# Altium footprint library Tool.PcbLib: 86 footprints (part 5 of 6)
Each footprint in its own frame and in the unit in brackets; x right, y up, seen from the top. Pads: shape width x height; smd on the part's side, far side on the other; paste and mask are expansions set on the pad; w line width, h text height; cw(c..) or ccw(c..) is an arc to the next point about the centre after c.
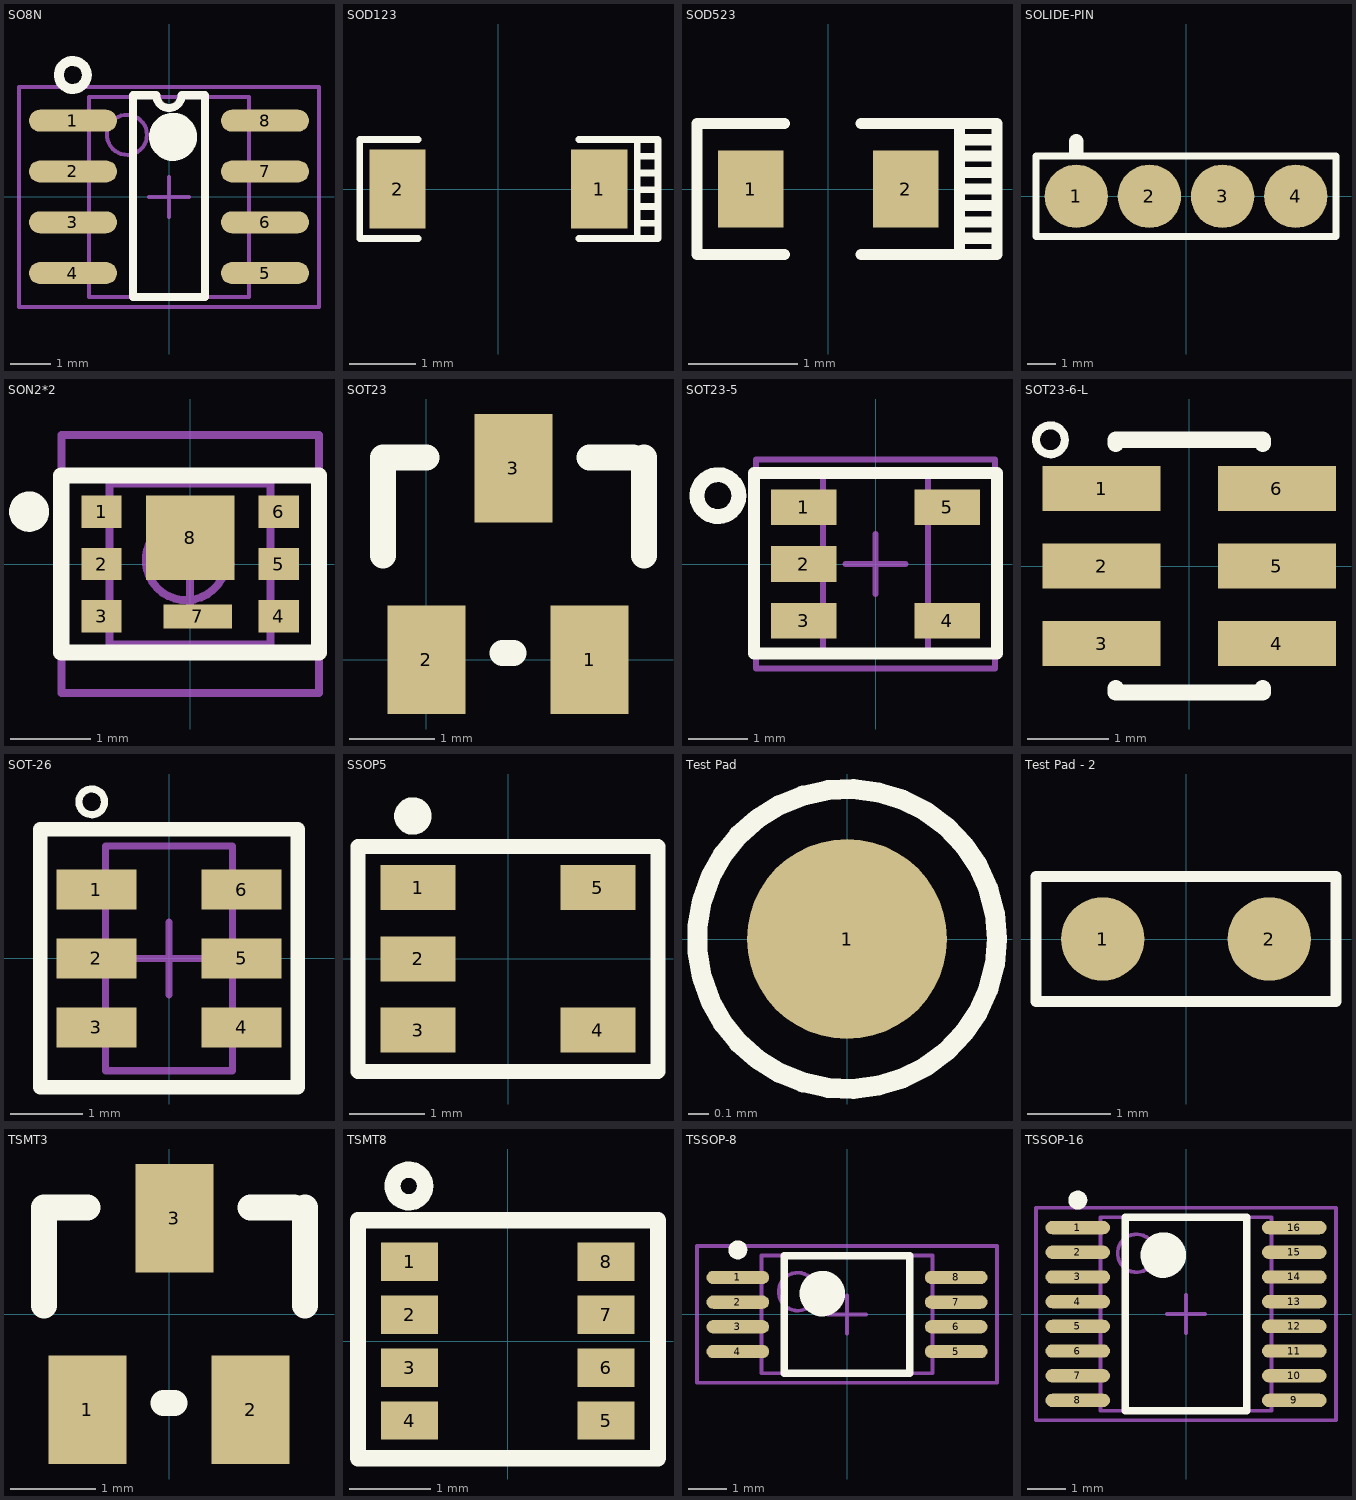
[diagram p4: the footprints below, top view; thin cyan lines are the x and y axes]

## SO8N [mm]
height 1.75
pads (8):
  oval 2.2x0.55 smd: 1(-2.4,1.905) 2(-2.4,0.635) 3(-2.4,-0.635) 4(-2.4,-1.905) 5(2.4,-1.905) 6(2.4,-0.635) 7(2.4,0.635) 8(2.4,1.905)
Top Overlay:
  circle w0.6: c0.1,1.5 r0.3
  circle w0.25: c-2.405,3.048 r0.35
  lines w0.2: -0.9,2.5 -0.9,-2.5 0.9,-2.5 0.9,2.5
  lines w0.203: -0.9,2.54 -0.317,2.54 ccw(c0,2.54) 0.318,2.54 0.9,2.54
Mechanical 13:
  circle w0.1: c-1.05,1.55 r0.5
  lines w0.1: -2,-2.5 2,-2.5 2,2.5 -2,2.5 -2,-2.5
Mechanical 15:
  lines w0.1: -0.5,0 0.5,0 ; 0,-0.5 0,0.5 ; -3.75,-2.75 3.75,-2.75 3.75,2.75 -3.75,2.75 -3.75,-2.75
3D body: height 1.75, standoff 0.17, extent -2,-2.5 2,2.5

## SOD123 [mm] "厂家：ROHM，型号：RB161M-20"
pads (2):
  rect 0.85x1.2 smd: 1(1.525,0) 2(-1.525,0)
Top Overlay:
  lines w0.102: -1.215,-0.75 -2.1,-0.75 -2.1,0.75 -1.215,0.75 ; 1.215,-0.75 2.1,-0.75 ; 1.215,0.75 2.1,0.75 ; 2.1,-0.52 2.414,-0.52 ; 2.1,-0.266 2.414,-0.266 ; 2.1,-0.012 2.414,-0.012 ; 2.1,0.242 2.414,0.242 ; 2.1,0.496 2.414,0.496 ; 2.1,-0.75 2.1,0.75 ; 2.1,-0.75 2.414,-0.75 2.414,0.75 2.1,0.75

## SOD523 [mm]
pads (2):
  rect 0.6x0.7 smd: 1(-0.71,0) 2(0.71,0)
Top Overlay:
  lines w0.102: -0.4,-0.6 -1.2,-0.6 -1.2,0.6 -0.4,0.6 ; 0.3,-0.6 1.543,-0.6 1.543,0.6 0.3,0.6 ; 1.2,-0.6 1.2,0.6 ; 1.2,-0.45 1.514,-0.45 ; 1.21,-0.3 1.524,-0.3 ; 1.21,-0.15 1.524,-0.15 ; 1.21,0 1.524,0 ; 1.21,0.3 1.524,0.3 ; 1.229,0.15 1.543,0.15 ; 1.229,0.45 1.543,0.45
3D body: height 0.7, standoff 0, extent -1.377,-0.552 1.377,0.552

## SOLIDE-PIN [mm] "厂家：联立通，型号：LLT-144006"
pads (4):
  round 2.2 smd: 1(-3.81,0) 2(-1.27,0) 3(1.27,0) 4(3.81,0)
Top Overlay:
  lines w0.254: -5.207,-1.397 5.207,-1.397 5.207,1.397 -5.207,1.397 -5.207,-1.397
  lines w0.5: -3.81,1.524 -3.81,1.905

## SON2*2 [mm]
height 0.8
pads (8):
  rect 0.5x0.4 smd: 1(-1.1,0.65) 2(-1.1,0) 3(-1.1,-0.65) 4(1.1,-0.65) 5(1.1,0) 6(1.1,0.65)
  rect 0.85x0.3 smd: 7(0.095,-0.65)
  rect 1.1x1.05 smd: 8(0,0.325)
Top Overlay:
  circle w0.25: c-2,0.65 r0.125
  lines w0.2: -1.6,-1.1 1.6,-1.1 1.6,1.1 -1.6,1.1 -1.6,-1.1
Mechanical 13:
  circle w0.1: c-0.05,0.05 r0.5
  lines w0.1: -1,-1 -1,1 1,1 1,-1 -1,-1
Mechanical 15:
  lines w0.1: -0.5,0 0.5,0 ; 0,-0.5 0,0.5 ; -1.6,-1.6 -1.6,1.6 1.6,1.6 1.6,-1.6 -1.6,-1.6
3D body: height 0.8, standoff 0.05, extent -1,-1 1,1

## SOT23 [mil]
pads (3):
  rect 36x50 smd: 1(75,0) 2(0,0) 3(40,88)
Top Overlay:
  lines w12: -20,48 -20,93 0,93 ; 35,3 40,3 ; 75,93 95,93 ; 100,48 100,93
3D body: height 37.4, standoff 0, extent -22,-29.01 97,116.99

## SOT23-5 [mm] "厂家：ST，型号：STM6321硬件复位看门狗芯片"
pads (5):
  rect 1.1x0.6 smd: 1(-1.2,0.95) 2(-1.2,0) 3(-1.2,-0.95) 4(1.2,-0.95) 5(1.2,0.95)
Top Overlay:
  circle w0.25: c-2.636,1.143 r0.35
  lines w0.2: -2.032,-1.5 -2.032,1.524 2.032,1.524 2.032,-1.5 -2.032,-1.5
Mechanical 13:
  lines w0.1: -0.875,-1.5 0.875,-1.5 0.875,1.5 -0.875,1.5 -0.875,-1.5
Mechanical 15:
  lines w0.1: -0.5,0 0.5,0 ; 0,-0.5 0,0.5 ; -2,-1.75 2,-1.75 2,1.75 -2,1.75 -2,-1.75
3D body: height 1.45, standoff 0.15, extent -0.875,-1.5 0.875,1.5

## SOT23-6-L [mm]
pads (6):
  rect 1.45x0.55 smd: 1(-1.075,0.95) 2(-1.075,0) 3(-1.075,-0.95) 4(1.075,-0.95) 5(1.075,0) 6(1.075,0.95)
Top Overlay:
  circle w0.1: c-1.702,1.549 r0.177
  lines w0.2: -0.9,-1.5 -0.9,-1.55 0.9,-1.55 0.9,-1.5 ; -0.9,1.5 -0.9,1.55 0.9,1.55 0.9,1.5
3D body "User Library-SOT-23-6.STEP": height 1.08, standoff -0.01, extent -1.232,-1.397 1.194,1.397

## SOT-26 [mm] "SOT23, 6-Leads, Body 3.1x2.6mm (max), Pitch 0.95mm, IPC Medium Density"
height 1.3
pads (6):
  rect 1.1x0.55 smd: 1(-1,0.95) 2(-1,0) 3(-1,-0.95) 4(1,-0.95) 5(1,0) 6(1,0.95)
Top Overlay:
  circle w0.1: c-1.066,2.159 r0.177
  lines w0.2: -1.778,-1.778 -1.778,1.778 1.778,1.778 1.778,-1.778 -1.778,-1.778
Mechanical 13:
  lines w0.1: -0.875,-1.55 -0.875,1.55 0.875,1.55 0.875,-1.55 -0.875,-1.55
Mechanical 15:
  lines w0.1: -0.5,0 0.5,0 ; 0,-0.5 0,0.5 ; -1.8,-1.8 -1.8,1.8 1.8,1.8 1.8,-1.8 -1.8,-1.8
3D body: height 1.3, standoff 0.1, extent -0.875,-1.55 0.875,1.55

## SSOP5 [mm]
pads (5):
  rect 1x0.6 smd: 1(-1.2,0.95) 2(-1.2,0) 3(-1.2,-0.95) 4(1.2,-0.95) 5(1.2,0.95)
Top Overlay:
  circle w0.25: c-1.268,1.905 r0.125
  lines w0.2: -2,-1.5 -2,1.5 2,1.5 2,-1.5 -2,-1.5

## Test Pad [mm]
pads (1):
  round 1 smd: 1(0,0)
Top Overlay:
  circle w0.1: c0,0 r0.75
3D body: height 0.1, standoff 0, extent -0.602,-0.602 0.602,0.602

## Test Pad - 2 [mm]
pads (2):
  round 1 smd: 1(-1,0) 2(1,0)
Top Overlay:
  lines w0.127: -1.8,-0.75 -1.8,0.75 1.8,0.75 1.8,-0.75 -1.8,-0.75

## TSMT3 [mil]
pads (3):
  rect 36x50 smd: 1(-37.5,-44) 2(37.5,-44) 3(2.5,44)
Top Overlay:
  lines w12: -57.5,4 -57.5,49 -37.5,49 ; -2.5,-41 2.5,-41 ; 37.5,49 57.5,49 ; 62.5,4 62.5,49
3D body: height 39.37, standoff 0, extent -59.5,-73 59.5,73

## TSMT8 [mm] "TSOP, 8-Leads, Body 3.1x2.5mm (max), Pitch 0.65mm, IPC Medium Density"
height 0.85
pads (8):
  rect 0.7x0.47 smd: 1(-1.205,0.975) 2(-1.205,0.325) 3(-1.205,-0.325) 4(-1.205,-0.975) 5(1.205,-0.975) 6(1.205,-0.325) 7(1.205,0.325) 8(1.205,0.975)
Top Overlay:
  circle w0.2: c-1.216,1.905 r0.2
  lines w0.2: -1.84,-1.438 1.843,-1.438 1.843,1.483 -1.84,1.483 -1.84,-1.438
3D body: height 0.85, standoff 0.05, extent -1.18,-1.55 1.32,1.55

## TSSOP-8 [mm] "TSOP, 8-Leads, Body 3.1x4.5mm (max), Pitch 0.65mm, IPC Medium Density"
height 1.2
pads (8):
  oval 1.65x0.35 smd: 1(-2.875,0.975) 2(-2.875,0.325) 3(-2.875,-0.325) 4(-2.875,-0.975) 5(2.875,-0.975) 6(2.875,-0.325) 7(2.875,0.325) 8(2.875,0.975)
Top Overlay:
  circle w0.25: c-2.875,1.7 r0.125
  circle w0.6: c-0.65,0.55 r0.3
  lines w0.2: -1.65,-1.55 -1.65,1.55 1.65,1.55 1.65,-1.55 -1.65,-1.55
Mechanical 13:
  circle w0.1: c-1.3,0.6 r0.5
  lines w0.1: -2.25,-1.55 -2.25,1.55 2.25,1.55 2.25,-1.55 -2.25,-1.55
Mechanical 15:
  lines w0.1: -0.5,0 0.5,0 ; 0,-0.5 0,0.5 ; -3.95,-1.8 -3.95,1.8 3.95,1.8 3.95,-1.8 -3.95,-1.8
3D body: height 1.2, standoff 0.05, extent -2.25,-1.55 2.25,1.55

## TSSOP-16 [mm] "TSOP, 16-Leads, Body 5.1x4.5mm (max), Pitch 0.65mm, IPC Medium Density"
height 1.2
pads (16):
  oval 1.7x0.35 smd: 1(-2.85,2.275) 2(-2.85,1.625) 3(-2.85,0.975) 4(-2.85,0.325) 5(-2.85,-0.325) 6(-2.85,-0.975) 7(-2.85,-1.625) 8(-2.85,-2.275) 9(2.85,-2.275) 10(2.85,-1.625) 11(2.85,-0.975) 12(2.85,-0.325) 13(2.85,0.325) 14(2.85,0.975) 15(2.85,1.625) 16(2.85,2.275)
Top Overlay:
  circle w0.25: c-2.85,3 r0.125
  circle w0.6: c-0.6,1.55 r0.3
  lines w0.2: -1.6,-2.55 -1.6,2.55 1.6,2.55 1.6,-2.55 -1.6,-2.55
Mechanical 13:
  circle w0.1: c-1.3,1.6 r0.5
  lines w0.1: -2.25,-2.55 -2.25,2.55 2.25,2.55 2.25,-2.55 -2.25,-2.55
Mechanical 15:
  lines w0.1: -0.5,0 0.5,0 ; 0,-0.5 0,0.5 ; -3.95,-2.8 -3.95,2.8 3.95,2.8 3.95,-2.8 -3.95,-2.8
3D body: height 1.2, standoff 0.05, extent -2.25,-2.55 2.25,2.55